# Altium schematic symbol library 47u.SchLib: 2 symbols
Pins are listed as number, name and electrical type; pins without a type are passive.

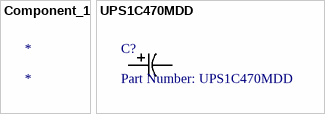
[diagram p0: symbols Component_1 to UPS1C470MDD]

## Component_1
designator *

## UPS1C470MDD
designator C?, comment Part Number: UPS1C470MDD
No Description Available; Vendor: Nichicon; Built_By: EMA_UL_Team; Type: DEV; Manufacturer_Part_Number: UPS1C470MDD; Copyright: Copyright (C) 2018 Accelerated Designs. All rights reserved; RefDes: RefDes; Value: Value
footprint PCAP_5x11-THRU-E
pins: 1, 2